# Altium schematic symbol library TPS7A4901DGN.SchLib: 1 symbol
Pins are listed as number, name and electrical type; pins without a type are passive.

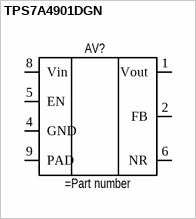
[diagram p0: symbol TPS7A4901DGN]

## TPS7A4901DGN
designator AV?
Ultralow-Noise, Positive Linear Regulator
pins: 1 Vout, 2 FB, 4 GND, 5 EN, 6 NR, 8 Vin, 9 PAD